# Altium schematic symbol library 电子表.SchLib: 3 symbols
Pins are listed as number, name and electrical type; pins without a type are passive.

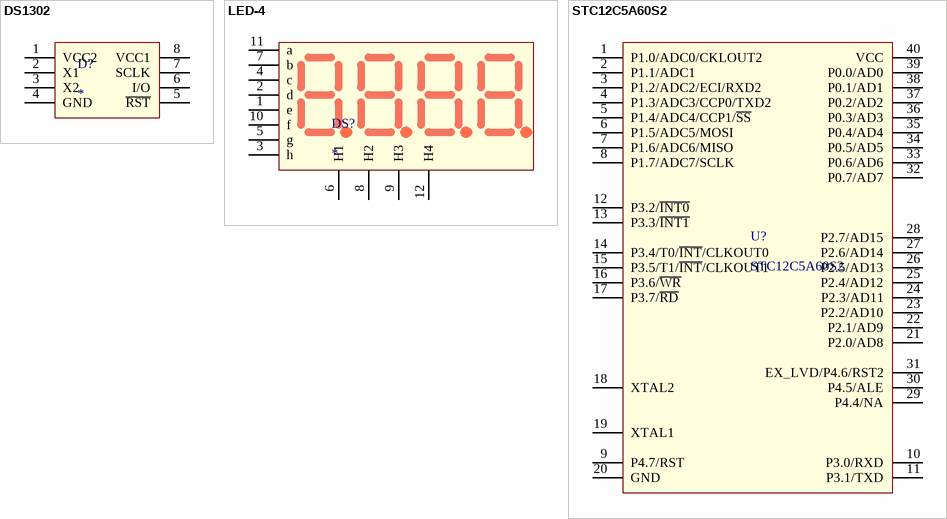
[diagram p0: symbols DS1302 to STC12C5A60S2]

## DS1302
designator D?
pins: 1 VCC2, 2 X1, 3 X2, 4 GND, 5 ~{RST}, 6 I/O, 7 SCLK, 8 VCC1

## LED-4
designator DS?
pins: 1 e, 2 d, 3 h, 4 c, 5 g, 6 H1, 7 b, 8 H2, 9 H3, 10 f, 11 a, 12 H4

## STC12C5A60S2
designator U?
pins: 1 P1.0/ADC0/CKLOUT2, 2 P1.1/ADC1, 3 P1.2/ADC2/ECI/RXD2, 4 P1.3/ADC3/CCP0/TXD2, 5 P1.4/ADC4/CCP1/~{SS}, 6 P1.5/ADC5/MOSI, 7 P1.6/ADC6/MISO, 8 P1.7/ADC7/SCLK, 9 P4.7/RST, 10 P3.0/RXD, 11 P3.1/TXD, 12 P3.2/~{INT0}, 13 P3.3/~{INT1}, 14 P3.4/T0/~{INT}/CLKOUT0, 15 P3.5/T1/~{INT}/CLKOUT1, 16 P3.6/~{WR}, 17 P3.7/~{RD}, 18 XTAL2, 19 XTAL1, 20 GND, 21 P2.0/AD8, 22 P2.1/AD9, 23 P2.2/AD10, 24 P2.3/AD11, 25 P2.4/AD12, 26 P2.5/AD13, 27 P2.6/AD14, 28 P2.7/AD15, 29 P4.4/NA, 30 P4.5/ALE, 31 EX_LVD/P4.6/RST2, 32 P0.7/AD7, 33 P0.6/AD6, 34 P0.5/AD5, 35 P0.4/AD4, 36 P0.3/AD3, 37 P0.2/AD2, 38 P0.1/AD1, 39 P0.0/AD0, 40 VCC